# EAGLE library part GY-521 (library Batebit)
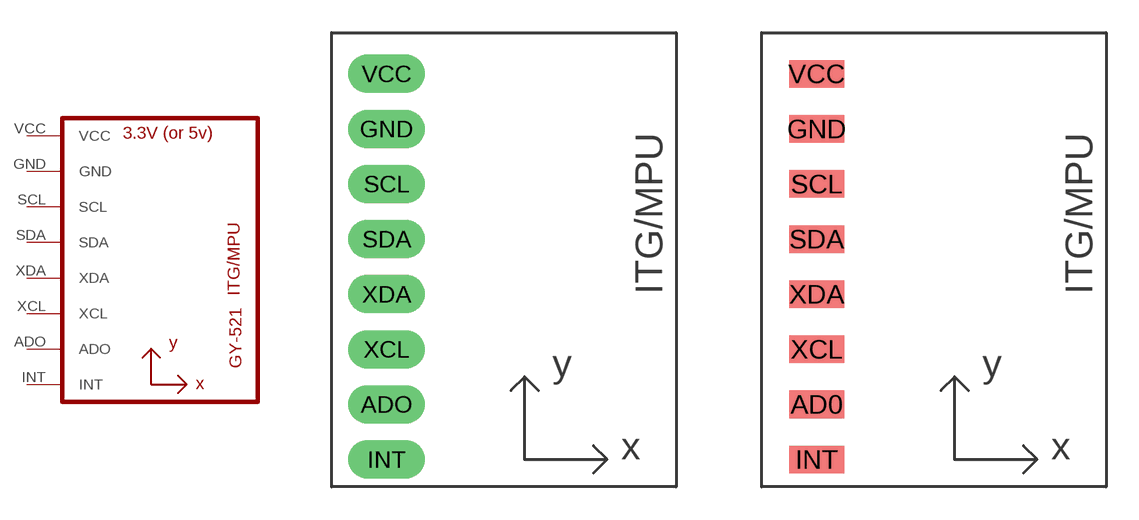
[diagram p1: symbol with the pads of GY-521; footprints GY-521, GY-521_SMD]

Designator prefix U

## GY-521MPU6050  [GY-521]
ADO  ADO
GND  GND
INT  INT
SCL  SCL
SDA  SDA
VCC  VCC
XCL  XCL
XDA  XDA

## GY-521SMD  [GY-521_SMD]
AD0  ADO
GND  GND
INT  INT
SCL  SCL
SDA  SDA
VCC  VCC
XCL  XCL
XDA  XDA

## Footprint GY-521 (pad centres in mm)
drill 1 pad 1.778 long: ADO -8.89,-6.35; GND -8.89,6.35; INT -8.89,-8.89; SCL -8.89,3.81; SDA -8.89,1.27; VCC -8.89,8.89; XCL -8.89,-3.81; XDA -8.89,-1.27

## Footprint GY-521_SMD (pad centres in mm)
smd 2.54 x 1.27: AD0 -7.62,-6.35; GND -7.62,6.35; INT -7.62,-8.89; SCL -7.62,3.81; SDA -7.62,1.27; VCC -7.62,8.89; XCL -7.62,-3.81; XDA -7.62,-1.27